# Altium footprint library Power ICs.PcbLib: 13 footprints
Each footprint in its own frame and in the unit in brackets; x right, y up, seen from the top. Pads: shape width x height; smd on the part's side, far side on the other; paste and mask are expansions set on the pad; w line width, h text height; cw(c..) or ccw(c..) is an arc to the next point about the centre after c.
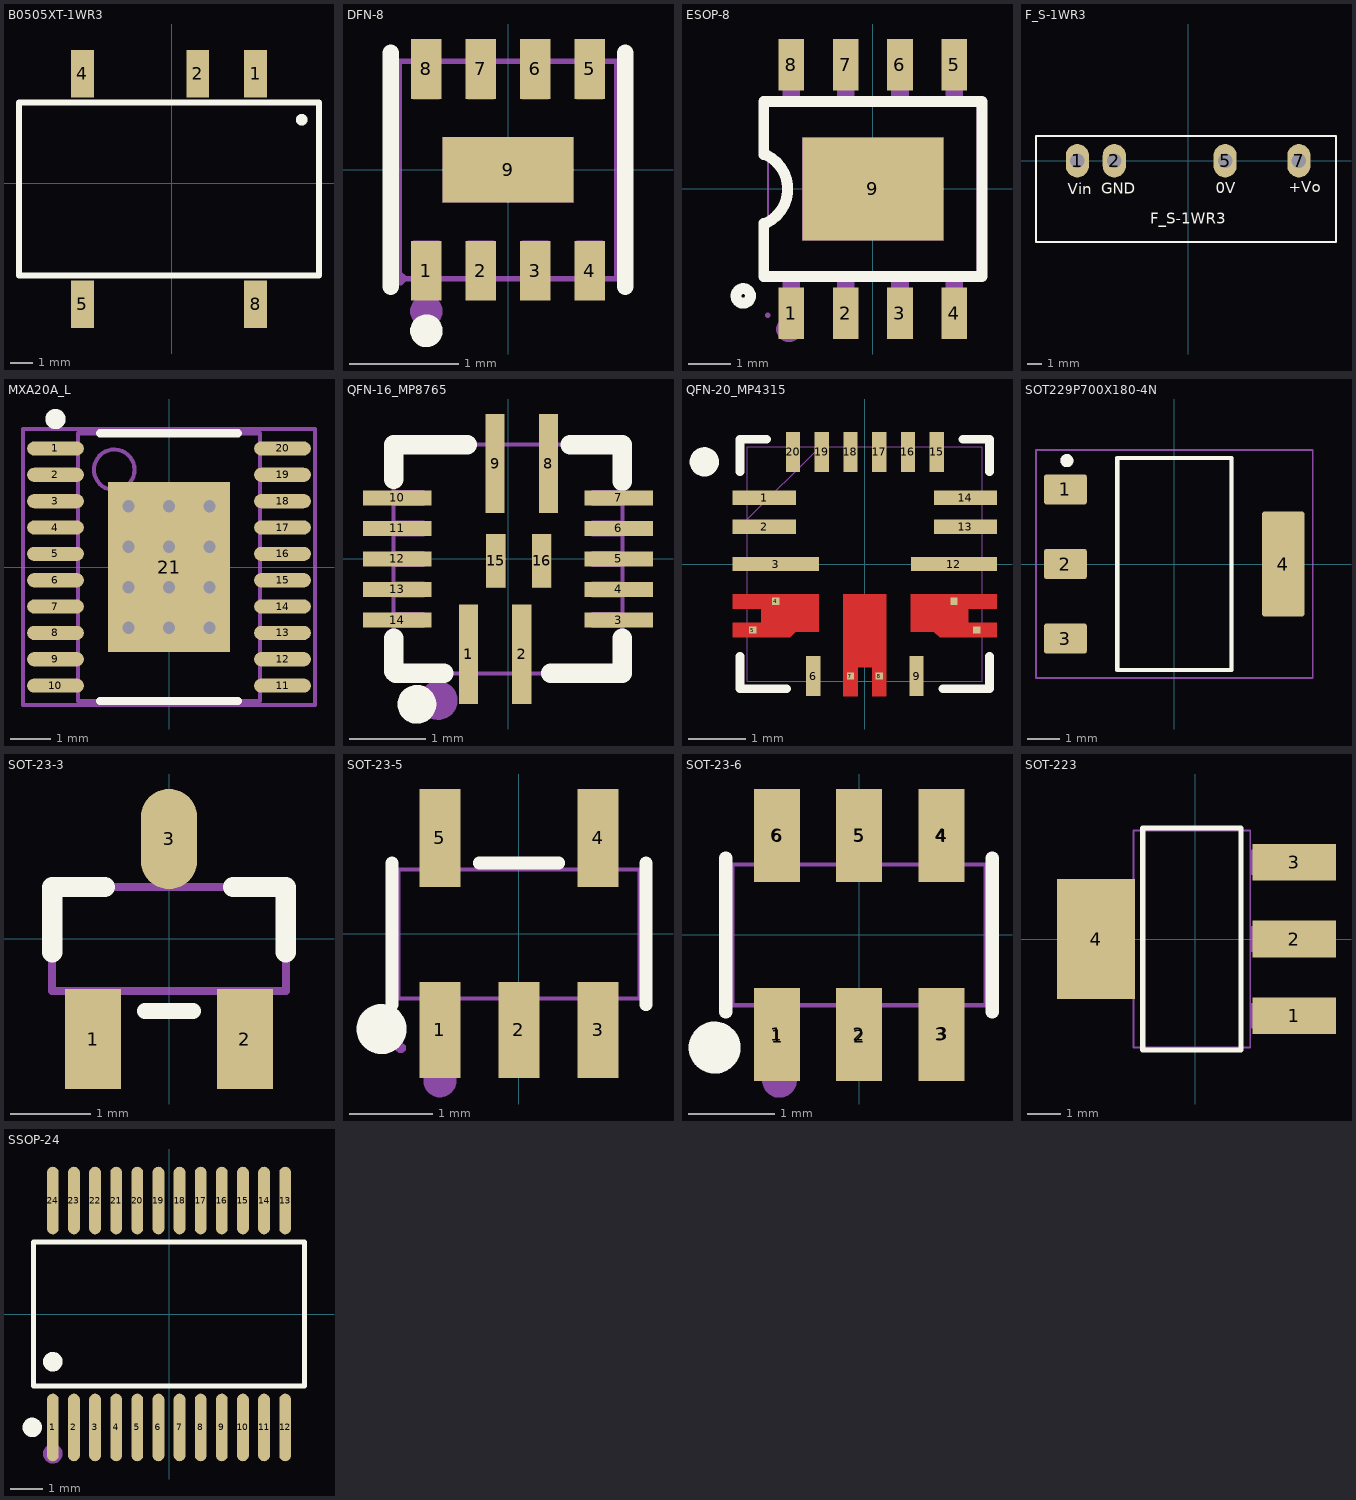
[diagram p0: the footprints below, top view; thin cyan lines are the x and y axes]

## B0505XT-1WR3 [mil]
pads (5):
  rect 39.37x82.68 smd: 1(145,190) 2(45,190) 4(-155,190) 5(-155,-210) 8(145,-210)
Top Overlay:
  circle w10: c225,110 r5
  lines w10: -265,-160 -265,140 255,140 255,-160 -265,-160
3D body "B05_XT-1WR3.stp": height 283.85, standoff -1.58, extent -264.84,-239.41 254.84,209.41

## DFN-8 [mm]
pads (9):
  rect 0.28x0.55 smd: 1(-0.75,-0.928) 2(-0.25,-0.928) 3(0.25,-0.928) 4(0.75,-0.928) 5(0.75,0.928) 6(0.25,0.928) 7(-0.25,0.928) 8(-0.75,0.928)
  rect 1.2x0.6 smd: 9(0,0)
Top Overlay:
  circle w0.15: c-0.75,-1.48 r0.075
  lines w0.152: -1.076,-1.076 -1.076,1.076 ; 1.076,-1.076 1.076,1.076
Mechanical 6:
  circle w0.15: c-0.75,-1.3 r0.075
Mechanical 15:
  region: -0.87,1 -0.63,1 -0.63,0.65 -0.87,0.65
  region: -0.37,1 -0.13,1 -0.13,0.65 -0.37,0.65
  region: 0.13,1 0.37,1 0.37,0.65 0.13,0.65
  region: 0.63,1 0.87,1 0.87,0.65 0.63,0.65
  region: 0.63,-0.65 0.87,-0.65 0.87,-1 0.63,-1
  region: 0.13,-0.65 0.37,-0.65 0.37,-1 0.13,-1
  region: -0.37,-0.65 -0.13,-0.65 -0.13,-1 -0.37,-1
  region: -0.87,-0.65 -0.63,-0.65 -0.63,-1 -0.87,-1
  region: -0.6,0.3 0.6,0.3 0.6,-0.3 -0.6,-0.3
  region: -0.94,-1 -0.941,-0.976 -0.976,-0.941 -1.024,-0.941 -1.059,-0.976 -1.06,-1 -1.059,-1.024 -1.024,-1.059 -0.976,-1.059 -0.941,-1.024
  lines w0.051: -1,-1 1,-1 1,1 -1,1 -1,-1
3D body "DFN8_2x2.STEP": height 0.75, standoff 0, extent -1,-1.005 1,1.005

## ESOP-8 [mm]
pads (9):
  rect 0.6x1.2 smd mask+0.051: 1(-1.905,-2.908) 2(-0.635,-2.908) 3(0.635,-2.908) 4(1.905,-2.908) 5(1.905,2.908) 6(0.635,2.908) 7(-0.635,2.908) 8(-1.905,2.908)
  rect 3.3x2.4 smd mask+0.051: 9(0,0)
Top Overlay:
  circle w0.254: c-3.03,-2.5 r0.17
  lines w0.254: -2.55,-0.8 -2.55,-2.05 2.55,-2.05 2.55,2.05 -2.55,2.05 -2.55,0.8 ; -2.5,-0.8 ccw(c-2.875,0) -2.5,0.8
Mechanical 6:
  circle w0.3: c-1.96,-3.28 r0.15
Mechanical 15:
  region: 1.65,-1.2 -1.65,-1.2 -1.65,1.2 1.65,1.2
  region: 1.705,-2.95 1.705,-2.3 2.105,-2.3 2.105,-2.95
  region: 1.705,-2.31 1.705,-1.94 2.105,-1.94 2.105,-2.31
  region: 0.435,-2.95 0.435,-2.3 0.835,-2.3 0.835,-2.95
  region: 0.435,-2.31 0.435,-1.94 0.835,-1.94 0.835,-2.31
  region: -0.835,-2.95 -0.835,-2.3 -0.435,-2.3 -0.435,-2.95
  region: -0.835,-2.31 -0.835,-1.94 -0.435,-1.94 -0.435,-2.31
  region: -2.105,-2.95 -2.105,-2.3 -1.705,-2.3 -1.705,-2.95
  region: -2.105,-2.31 -2.105,-1.94 -1.705,-1.94 -1.705,-2.31
  region: 1.705,2.3 1.705,2.95 2.105,2.95 2.105,2.3
  region: 1.705,1.94 1.705,2.31 2.105,2.31 2.105,1.94
  region: 0.435,2.3 0.435,2.95 0.835,2.95 0.835,2.3
  region: 0.435,1.94 0.435,2.31 0.835,2.31 0.835,1.94
  region: -0.835,2.3 -0.835,2.95 -0.435,2.95 -0.435,2.3
  region: -0.835,1.94 -0.835,2.31 -0.435,2.31 -0.435,1.94
  region: -2.105,2.3 -2.105,2.95 -1.705,2.95 -1.705,2.3
  region: -2.105,1.94 -2.105,2.31 -1.705,2.31 -1.705,1.94
  region: -2.394,-2.95 -2.394,-2.925 -2.429,-2.89 -2.479,-2.89 -2.514,-2.925 -2.514,-2.95 -2.514,-2.975 -2.479,-3.01 -2.429,-3.01 -2.394,-2.975
  lines w0.051: -2.45,-1.95 -2.45,1.95 2.45,1.95 2.45,-1.95 -2.45,-1.95
3D body "SO-8N.STEP": height 1.62, standoff 0, extent -2.46,-3 2.46,3

## F_S-1WR3 [mm]
pads (4):
  oval 1.6x2.3 hole 1: 1(-7.62,0) 2(-5.08,0) 5(2.54,0) 7(7.62,0)
Top Overlay:
  lines w0.127: -10.47,-5.6 10.17,-5.6 10.17,1.7 -10.47,1.7 -10.47,-5.6
  text "+Vo" at 6.936,-2.164 h0.76
  text "0V" at 1.905,-2.235 h0.76
  text "GND" at -5.969,-2.272 h0.76
  text "Vin" at -8.284,-2.308 h0.76
  text "F_S-1WR3" at -2.602,-4.346 h0.76
3D body "F_S-1WR3.stp": height 10.16, standoff -4.1, extent -9.945,-5.118 9.704,0.882

## MXA20A_L [mm]
pads (21):
  oval 1.4x0.35 smd: 1(-2.8,2.925) 2(-2.8,2.275) 3(-2.8,1.625) 4(-2.8,0.975) 5(-2.8,0.325) 6(-2.8,-0.325) 7(-2.8,-0.975) 8(-2.8,-1.625) 9(-2.8,-2.275) 10(-2.8,-2.925) 11(2.8,-2.925) 12(2.8,-2.275) 13(2.8,-1.625) 14(2.8,-0.975) 15(2.8,-0.325) 16(2.8,0.325) 17(2.8,0.975) 18(2.8,1.625) 19(2.8,2.275) 20(2.8,2.925)
  rect 3x4.2 smd: 21(0,0)
via -1,-1.5 diameter 0.5 hole 0.305
via 0,-1.5 diameter 0.5 hole 0.305
via -1,-0.5 diameter 0.5 hole 0.305
via 1,-0.5 diameter 0.5 hole 0.305
via 0,-0.5 diameter 0.5 hole 0.305
via -1,0.5 diameter 0.5 hole 0.305
via 0,0.5 diameter 0.5 hole 0.305
via -1,1.5 diameter 0.5 hole 0.305
via 0,1.5 diameter 0.5 hole 0.305
via 1,-1.5 diameter 0.5 hole 0.305
via 1,0.5 diameter 0.5 hole 0.305
via 1,1.5 diameter 0.5 hole 0.305
Top Overlay:
  circle w0.25: c-2.8,3.65 r0.125
  lines w0.2: -1.7,-3.3 1.7,-3.3 ; -1.7,3.3 1.7,3.3
Mechanical 5:
  text ".Designator" at -1.524,-0.508 h1.02
Mechanical 13:
  circle w0.1: c-1.35,2.4 r0.5
  lines w0.1: -2.25,-3.3 -2.25,3.3 2.25,3.3 2.25,-3.3 -2.25,-3.3
Mechanical 15:
  lines w0.1: -0.5,0 0.5,0 ; 0,-0.5 0,0.5 ; -3.6,-3.4 -3.6,3.4 3.6,3.4 3.6,-3.4 -3.6,-3.4
3D body: height 1.1, standoff 0, extent -2.25,-3.3 2.25,3.3

## QFN-16_MP8765 [mm] "MP8765 Dedicated QFN-16 3x3mm Footprint."
pads (16):
  rect 0.25x1.3 smd: 1(-0.52,-1.25) 2(0.18,-1.25) 8(0.53,1.25) 9(-0.17,1.25)
  rect 0.9x0.2 smd: 3(1.45,-0.8) 4(1.45,-0.4) 5(1.45,0) 6(1.45,0.4) 7(1.45,0.8) 10(-1.45,0.8) 11(-1.45,0.4) 12(-1.45,0) 13(-1.45,-0.4) 14(-1.45,-0.8)
  rect 0.25x0.7 smd: 15(-0.16,-0.025) 16(0.44,-0.025)
Top Overlay:
  circle w0.254: c-1.194,-1.905 r0.127
  lines w0.254: -1.499,-1.041 -1.499,-1.473 -1.473,-1.499 -0.838,-1.499 ; -1.499,1.041 -1.499,1.499 -0.534,1.499 ; 0.559,-1.499 1.498,-1.499 1.498,-1.041 ; 0.813,1.499 1.498,1.499 1.498,1.016
Mechanical 6:
  circle w0.254: c-0.915,-1.854 r0.127
Mechanical 15:
  region: -0.42,-0.7 -0.42,-1.5 -0.62,-1.5 -0.62,-0.7
  region: 0.28,-0.7 0.28,-1.5 0.08,-1.5 0.08,-0.7
  region: -0.27,0.7 -0.27,1.5 -0.07,1.5 -0.07,0.7
  region: 0.43,0.7 0.43,1.5 0.63,1.5 0.63,0.7
  region: 1.5,-0.9 1.1,-0.9 1.1,-0.7 1.5,-0.7
  region: 1.5,-0.5 1.1,-0.5 1.1,-0.3 1.5,-0.3
  region: 1.5,-0.1 1.1,-0.1 1.1,0.1 1.5,0.1
  region: 1.5,0.3 1.1,0.3 1.1,0.5 1.5,0.5
  region: 1.5,0.7 1.1,0.7 1.1,0.9 1.5,0.9
  region: -1.5,0.9 -1.1,0.9 -1.1,0.7 -1.5,0.7
  region: -1.5,0.5 -1.1,0.5 -1.1,0.3 -1.5,0.3
  region: -1.5,0.1 -1.1,0.1 -1.1,-0.1 -1.5,-0.1
  region: -1.5,-0.3 -1.1,-0.3 -1.1,-0.5 -1.5,-0.5
  region: -1.5,-0.7 -1.1,-0.7 -1.1,-0.9 -1.5,-0.9
  region: 0.315,-0.375 0.315,0.325 0.565,0.325 0.565,-0.375
  region: -0.285,-0.375 -0.285,0.325 -0.035,0.325 -0.035,-0.375
  region: -1.44,-1.5 -1.44,-1.475 -1.475,-1.44 -1.525,-1.44 -1.56,-1.475 -1.56,-1.5 -1.56,-1.525 -1.525,-1.56 -1.475,-1.56 -1.44,-1.525
  lines w0.051: -1.5,-1.5 -1.5,1.5 1.5,1.5 1.5,-1.5 -1.5,-1.5
3D body "MP8765 (QFN16, 3x3).step": height 0.87, standoff -0.03, extent -1.5,-1.5 1.5,1.5

## QFN-20_MP4315 [mm]
pads (20):
  rect 1.1x0.25 smd paste+0: 1(-1.75,1.15) 2(-1.75,0.65) 13(1.75,0.65) 14(1.75,1.15)
  rect 1.5x0.25 smd paste+0: 3(-1.55,0) 12(1.55,0)
  rect 0.127x0.127 smd paste+0 mask+0: 4(-1.55,-0.65) 5(-1.95,-1.15) 7(-0.25,-1.95) 8(0.25,-1.95) 10(1.95,-1.15) 11(1.55,-0.65)
  rect 0.25x0.7 smd paste+0: 6(-0.9,-1.95) 9(0.9,-1.95) 15(1.25,1.95) 16(0.75,1.95) 17(0.25,1.95) 18(-0.25,1.95) 19(-0.75,1.95) 20(-1.25,1.95)
Top Layer:
  region: -0.375,-2.3 -0.125,-2.3 -0.125,-1.8 0.125,-1.8 0.125,-2.3 0.375,-2.3 0.375,-0.525 -0.375,-0.525
  region: -2.3,-0.525 -2.3,-0.775 -1.8,-0.775 -1.8,-1.025 -2.3,-1.025 -2.3,-1.275 -1.3,-1.275 -1.2,-1.175 -0.8,-1.175 -0.8,-0.525
  region: 2.3,-0.525 2.3,-0.775 1.8,-0.775 1.8,-1.025 2.3,-1.025 2.3,-1.275 1.3,-1.275 1.2,-1.175 0.8,-1.175 0.8,-0.525
Top Overlay:
  circle w0.254: c-2.794,1.778 r0.127
  lines w0.152: -2.172,-1.608 -2.172,-2.172 -1.358,-2.172 ; -2.172,1.608 -2.172,2.172 -1.708,2.172 ; 1.358,-2.172 2.172,-2.172 2.172,-1.608 ; 1.708,2.172 2.172,2.172 2.172,1.608
Top Paste:
  region: 2.3,-0.525 2.3,-0.775 1.8,-0.775 1.8,-1.025 2.3,-1.025 2.3,-1.275 1.3,-1.275 1.2,-1.175 0.8,-1.175 0.8,-0.525
  region: -0.375,-2.3 -0.125,-2.3 -0.125,-1.8 0.125,-1.8 0.125,-2.3 0.375,-2.3 0.375,-0.525 -0.375,-0.525
  region: -2.3,-0.525 -2.3,-0.775 -1.8,-0.775 -1.8,-1.025 -2.3,-1.025 -2.3,-1.275 -1.3,-1.275 -1.2,-1.175 -0.8,-1.175 -0.8,-0.525
Top Solder:
  region: 2.3,-0.525 2.3,-0.775 1.8,-0.775 1.8,-1.025 2.3,-1.025 2.3,-1.275 1.3,-1.275 1.2,-1.175 0.8,-1.175 0.8,-0.525
  region: -0.375,-2.3 -0.125,-2.3 -0.125,-1.8 0.125,-1.8 0.125,-2.3 0.375,-2.3 0.375,-0.525 -0.375,-0.525
  region: -2.3,-0.525 -2.3,-0.775 -1.8,-0.775 -1.8,-1.025 -2.3,-1.025 -2.3,-1.275 -1.3,-1.275 -1.2,-1.175 -0.8,-1.175 -0.8,-0.525
Mechanical 15:
  lines w0.003: -2.045,0.775 -0.775,2.045 ; -2.045,-2.045 -2.045,2.045 2.045,2.045 2.045,-2.045 -2.045,-2.045
3D body "User Library-QFN20_4x4x0_8.STEP": height 0.78, standoff -0.02, extent -2.01,-2.01 2.01,2.01

## SOT229P700X180-4N [mm]
height 1.8
pads (4):
  rrect15% 1.31x0.93 smd: 1(-3.345,2.29) 2(-3.345,0) 3(-3.345,-2.29)
  rrect15% 1.31x3.24 smd: 4(3.345,0)
Top Overlay:
  circle w0.2: c-3.302,3.175 r0.1
  lines w0.127: -1.753,-3.253 -1.753,3.253 1.753,3.253 1.753,-3.253 -1.753,-3.253
Mechanical 13:
  circle w0.2: c-3.302,3.175 r0.1
  lines w0.127: -1.753,-3.253 -1.753,3.253 1.753,3.253 1.753,-3.253 -1.753,-3.253
Mechanical 15:
  lines w0.05: -4.25,-3.502 -4.25,3.502 4.25,3.502 4.25,-3.502 -4.25,-3.502
3D body "step_temp.STEP": height 1.8, standoff 0, extent -3.626,-3.251 3.372,3.251

## SOT-23-3 [mm]
pads (3):
  rect 0.7x1.25 smd: 1(-0.95,-1.25) 2(0.95,-1.25)
  oval 0.7x1.25 smd: 3(0,1.25)
Top Overlay:
  lines w0.2: -0.3,-0.9 0.3,-0.9
  lines w0.254: -1.46,-0.165 -1.46,0.65 -0.8,0.65 ; 1.46,-0.165 1.46,0.65 ; 0.8,0.65 1.46,0.65 ; 0.8,0.65 1.46,0.65 ; 0.8,0.65 1.46,0.65
Mechanical 13:
  lines w0.1: -1.46,-0.65 -1.46,0.65 ; -1.46,-0.65 -1.46,0.65 ; -1.46,-0.65 -1.46,0.65 ; -1.46,-0.65 1.46,-0.65 ; -1.46,-0.65 1.46,-0.65 ; -1.46,-0.65 1.46,-0.65 ; -1.46,0.65 1.46,0.65 ; -1.46,0.65 1.46,0.65 ; -1.46,0.65 1.46,0.65 ; 1.46,-0.65 1.46,0.65 ; 1.46,-0.65 1.46,0.65 ; 1.46,-0.65 1.46,0.65
3D body "SOT-23.step": height 1.3, standoff 0, extent -1.5,-1.5 1.5,1.5

## SOT-23-5 [mm]
pads (5):
  rect 0.49x1.157 smd: 1(-0.95,-1.154) 2(0,-1.154) 3(0.95,-1.154)
  rect 0.49x1.175 smd: 4(0.95,1.154) 5(-0.95,1.154)
Top Overlay:
  circle w0.3: c-1.651,-1.143 r0.15
  lines w0.152: -1.526,-0.851 -1.526,0.851 ; -0.476,0.851 0.476,0.851 ; 1.526,-0.851 1.526,0.851
Mechanical 6:
  circle w0.2: c-0.95,-1.763 r0.1
Mechanical 15:
  region: -1.125,-1.4 -1.125,-1 -0.775,-1 -0.775,-1.4
  region: -1.125,-1.01 -1.125,-0.74 -0.775,-0.74 -0.775,-1.01
  region: -0.175,-1.4 -0.175,-1 0.175,-1 0.175,-1.4
  region: -0.175,-1.01 -0.175,-0.74 0.175,-0.74 0.175,-1.01
  region: 0.775,-1.4 0.775,-1 1.125,-1 1.125,-1.4
  region: 0.775,-1.01 0.775,-0.74 1.125,-0.74 1.125,-1.01
  region: 0.775,1 0.775,1.4 1.125,1.4 1.125,1
  region: 0.775,0.74 0.775,1.01 1.125,1.01 1.125,0.74
  region: -1.125,1 -1.125,1.4 -0.775,1.4 -0.775,1
  region: -1.125,0.74 -1.125,1.01 -0.775,1.01 -0.775,0.74
  region: -1.36,-1.37 -1.361,-1.345 -1.396,-1.311 -1.445,-1.311 -1.48,-1.346 -1.48,-1.37 -1.48,-1.395 -1.445,-1.429 -1.396,-1.429 -1.361,-1.394
  lines w0.051: -1.45,-0.775 -1.45,0.775 1.45,0.775 1.45,-0.775 -1.45,-0.775
3D body "SOT-23-5.step": height 1.45, standoff 0, extent -1.549,-1.6 1.549,1.6

## SOT-23-6 [mil]
pads (12):
  rect 20.95x42.2 smd: 1(-37.4,-45.24) 2(0,-45.24) 3(37.4,-45.24) 4(37.4,45.24) 5(0,45.24) 6(-37.4,45.24)
  rect 20.95x42.2 on Top Solder: 1(-37,-46) 2(0.4,-46) 3(38,-45) 4(37.8,45) 5(0.4,45) 6(-37,45)
Top Overlay:
  circle w11.81: c-65.68,-51.24 r5.91
  lines w6: -60.6,-35.01 -60.6,35.01 ; 60.6,-35.01 60.6,35.01
Mechanical 6:
  circle w7.87: c-36.22,-66.14 r3.94
Mechanical 15:
  region: -55.24,-55.12 -55.24,-54.14 -56.62,-52.76 -58.58,-52.76 -59.96,-54.14 -59.96,-55.12 -59.96,-56.1 -58.58,-57.48 -56.62,-57.48 -55.24,-56.1
  region: -45.87,-36.42 -28.94,-36.42 -28.94,-55.12 -45.87,-55.12
  region: -45.87,-31.61 -28.94,-31.61 -28.94,-36.81 -45.87,-36.81
  region: -8.46,-36.42 8.46,-36.42 8.46,-55.12 -8.46,-55.12
  region: -8.46,-31.61 8.46,-31.61 8.46,-36.81 -8.46,-36.81
  region: 28.94,-36.42 45.87,-36.42 45.87,-55.12 28.94,-55.12
  region: 28.94,-31.61 45.87,-31.61 45.87,-36.81 28.94,-36.81
  region: 28.94,36.42 45.87,36.42 45.87,55.12 28.94,55.12
  region: 28.94,36.81 45.87,36.81 45.87,31.61 28.94,31.61
  region: -8.46,36.42 8.46,36.42 8.46,55.12 -8.46,55.12
  region: -8.46,36.81 8.46,36.81 8.46,31.61 -8.46,31.61
  region: -45.87,36.42 -28.94,36.42 -28.94,55.12 -45.87,55.12
  region: -45.87,36.81 -28.94,36.81 -28.94,31.61 -45.87,31.61
  lines w2: -57.6,-32.01 57.6,-32.01 57.6,32.01 -57.6,32.01 -57.6,-32.01
3D body "SOT-23-6.stp": height 39.37, standoff 0, extent -57.09,-45.24 57.09,49.25

## SOT-223 [mm]
pads (4):
  rect 2.5x1.1 smd: 1(2.97,-2.3) 2(2.97,0) 3(2.97,2.3)
  rect 2.34x3.6 smd: 4(-2.97,0)
Top Overlay:
  lines w0.152: -1.571,-3.326 -1.571,3.326 1.371,3.326 1.371,-3.326 -1.571,-3.326
Mechanical 15:
  region: 1.64,1.925 1.64,2.675 2.66,2.675 2.66,1.925
  region: 2.65,1.925 2.65,2.675 3.4,2.675 3.4,1.925
  region: 1.64,-0.375 1.64,0.375 2.66,0.375 2.66,-0.375
  region: 2.65,-0.375 2.65,0.375 3.4,0.375 3.4,-0.375
  region: 1.64,-2.675 1.64,-1.925 2.66,-1.925 2.66,-2.675
  region: 2.65,-2.675 2.65,-1.925 3.4,-1.925 3.4,-2.675
  region: -2.86,-1.5 -2.86,1.5 -1.84,1.5 -1.84,-1.5
  region: -3.6,-1.5 -3.6,1.5 -2.85,1.5 -2.85,-1.5
  lines w0.051: -1.85,-3.25 -1.85,3.25 1.65,3.25 1.65,-3.25 -1.85,-3.25
3D body "SOT-223.step": height 1.8, standoff 0, extent -3.223,-3.15 3.477,3.15

## SSOP-24 [mm]
pads (24):
  oval 0.364x2.082 smd: 1(-3.575,-3.491) 2(-2.925,-3.491) 3(-2.275,-3.491) 4(-1.625,-3.491) 5(-0.975,-3.491) 6(-0.325,-3.491) 7(0.325,-3.491) 8(0.975,-3.491) 9(1.625,-3.491) 10(2.275,-3.491) 11(2.925,-3.491) 12(3.575,-3.491) 13(3.575,3.491) 14(2.925,3.491) 15(2.275,3.491) 16(1.625,3.491) 17(0.975,3.491) 18(0.325,3.491) 19(-0.325,3.491) 20(-0.975,3.491) 21(-1.625,3.491) 22(-2.275,3.491) 23(-2.925,3.491) 24(-3.575,3.491)
Top Overlay:
  circle w0.3: c-3.575,-1.469 r0.15
  circle w0.3: c-4.209,-3.491 r0.15
  lines w0.152: -4.176,-2.221 -4.176,2.221 4.176,2.221 4.176,-2.221 -4.176,-2.221
Mechanical 15:
  circle w0.3: c-3.575,-4.3 r0.15
3D body "SSOP-24_G_LIT.step": height 1.7, standoff 0, extent -4.254,-4.102 4.254,4.102